# EAGLE library part 74LVC3G17 (library Semiconductors > Integrated Circuits - ICs > Logic ICs > Logic Gates)
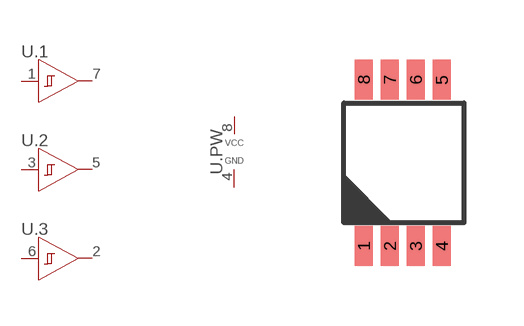
[diagram p2: symbol with the pads of TSSOP-8; footprint TSSOP-8]

Designator prefix U; gates .1=BUF-SCHMITT-TRIGGER .2=BUF-SCHMITT-TRIGGER .3=BUF-SCHMITT-TRIGGER .PW=PWR

## 74LVC3G17  [TSSOP-8]
1  .1:A  in
2  .3:Y  out
3  .2:A  in
4  .PW:GND
5  .2:Y  out
6  .3:A  in
7  .1:Y  out
8  .PW:VCC

## Footprint TSSOP-8 (pad centres in mm)
smd 0.45 x 1: 1 -1.005,-2.081; 2 -0.355,-2.081; 3 0.295,-2.081; 4 0.945,-2.081; 5 0.945,2.081; 6 0.295,2.081; 7 -0.355,2.081; 8 -1.005,2.081